# EAGLE library part MAX16054 (library iridia)
MAX16054 On/Off Controller with Debounce and ±15kV ESD Protection
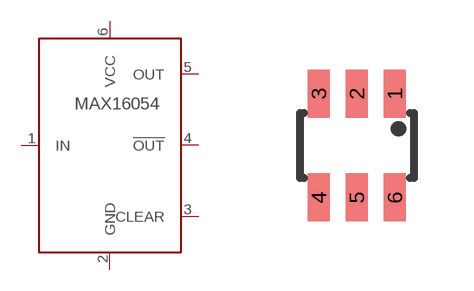
[diagram p12: symbol with the pads of SOT23-6-INV; footprint SOT23-6-INV]

Designator prefix -

## MAX16054  [SOT23-6-INV]
1  IN  in
2  GND  pwr
3  CLEAR  in
4  !OUT  out
5  OUT  out
6  VCC  pwr

## Footprint SOT23-6-INV (pad centres in mm)
smd 0.55 x 1.2: 1 0.95,1.3; 2 0,1.3; 3 -0.95,1.3; 4 -0.95,-1.3; 5 0,-1.3; 6 0.95,-1.3